# Altium footprint library EVQPA.PcbLib: 1 footprints
Each footprint in its own frame and in the unit in brackets; x right, y up, seen from the top. Pads: shape width x height; smd on the part's side, far side on the other; paste and mask are expansions set on the pad; w line width, h text height; cw(c..) or ccw(c..) is an arc to the next point about the centre after c.
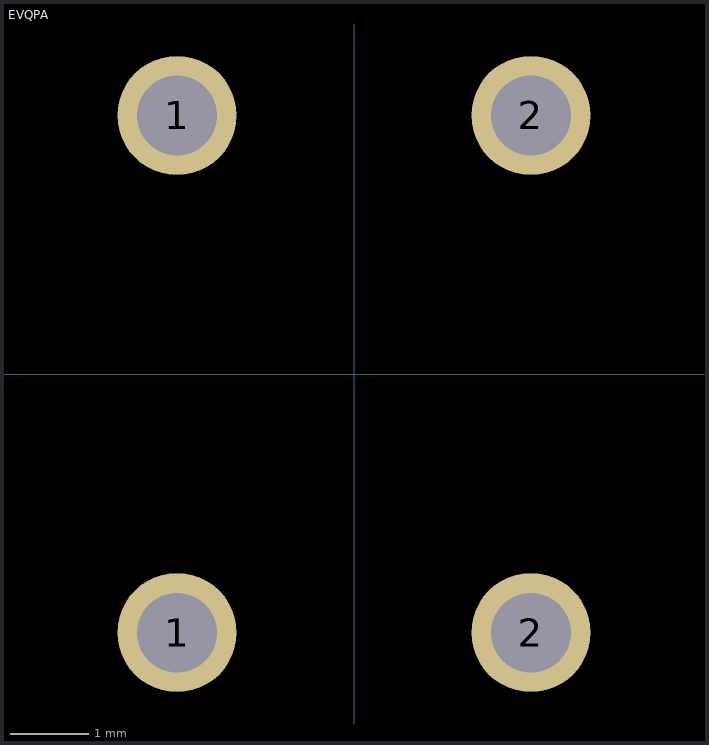
[diagram p0: the footprint, top view; thin cyan lines are the x and y axes]

## EVQPA [mil]
pads (4):
  round 60 hole 40: 1(-89,-130) 1(-89,130) 2(89,-130) 2(89,130)
3D body: height 379.02, standoff -132.8, extent -118.1,-161.64 118.12,161.66